# EAGLE library part LM139_COMPARATOR (library multigate)
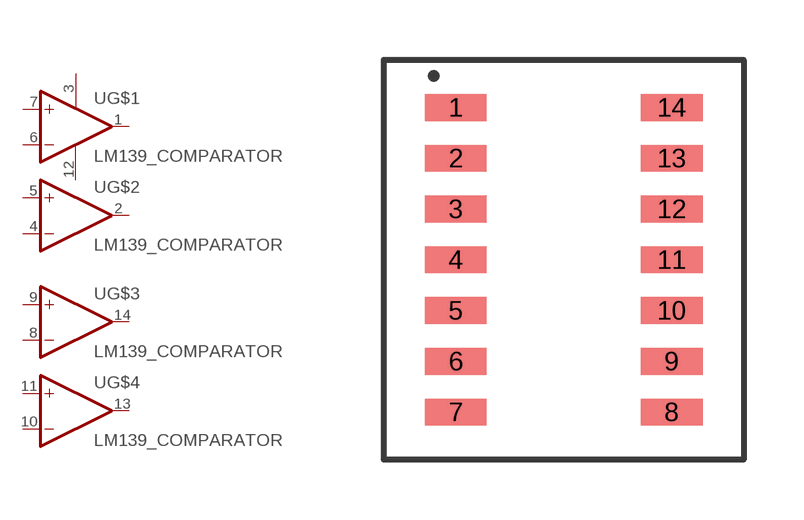
[diagram p0: symbol with the pads of 14-SOIC; footprint 14-SOIC]

Designator prefix U; gates G$1=14_PIN_COMPARATOR G$2=14_PIN_COMPARATOR G$3=14_PIN_COMPARATOR G$4=14_PIN_COMPARATOR G$5=PWR+-

## LM139_COMPARATOR  [14-SOIC]
1  G$1:OUT  pas
2  G$2:OUT  pas
3  G$5:V+  pwr
4  G$2:-IN  pas
5  G$2:+IN  pas
6  G$1:-IN  pas
7  G$1:+IN  pas
8  G$3:-IN  pas
9  G$3:+IN  pas
10  G$4:-IN  pas
11  G$4:+IN  pas
12  G$5:V-  pwr
13  G$4:OUT  pas
14  G$3:OUT  pas

## Footprint 14-SOIC (pad centres in mm)
smd 1.55 x 0.67: 1 -2.7,3.81; 2 -2.7,2.54; 3 -2.7,1.27; 4 -2.7,0; 5 -2.7,-1.27; 6 -2.7,-2.54; 7 -2.7,-3.81; 8 2.7,-3.81; 9 2.7,-2.54; 10 2.7,-1.27; 11 2.7,0; 12 2.7,1.27; 13 2.7,2.54; 14 2.7,3.81